# Altium footprint library IC_NXP_74HC4051D,652_eec_0.PcbLib: 1 footprints
Each footprint in its own frame and in the unit in brackets; x right, y up, seen from the top. Pads: shape width x height; smd on the part's side, far side on the other; paste and mask are expansions set on the pad; w line width, h text height; cw(c..) or ccw(c..) is an arc to the next point about the centre after c.
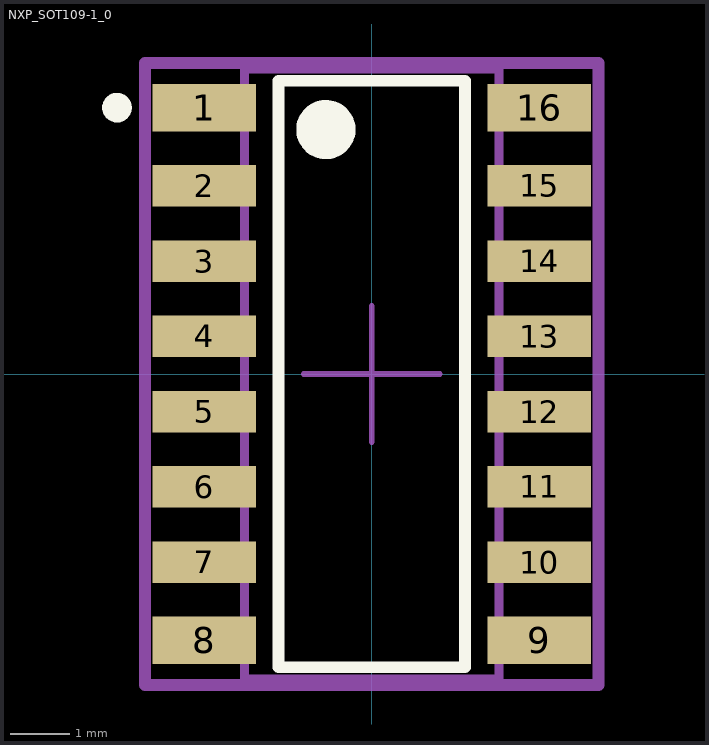
[diagram p0: the footprint, top view; thin cyan lines are the x and y axes]

## NXP_SOT109-1_0 [mm]
pads (16):
  rect 1.75x0.8 smd paste+0 mask+0: 1(-2.825,4.495) 8(-2.825,-4.495) 9(2.825,-4.495) 16(2.825,4.495)
  rect 1.75x0.7 smd paste+0 mask+0: 2(-2.825,3.175) 3(-2.825,1.905) 4(-2.825,0.635) 5(-2.825,-0.635) 6(-2.825,-1.905) 7(-2.825,-3.175) 10(2.825,-3.175) 11(2.825,-1.905) 12(2.825,-0.635) 13(2.825,0.635) 14(2.825,1.905) 15(2.825,3.175)
Top Overlay:
  circle w0.25: c-4.3,4.495 r0.125
  circle w0.5: c-0.775,4.125 r0.25
  lines w0.2: -1.575,-4.95 1.575,-4.95 1.575,4.95 -1.575,4.95 -1.575,-4.95
Mechanical 10:
  lines w0.2: -3.825,-5.25 3.825,-5.25 3.825,5.25 -3.825,5.25 -3.825,-5.25
  text ".Designator" at 0,0 h1
Mechanical 12:
  lines w0.15: -2.15,-5.15 2.15,-5.15 2.15,5.15 -2.15,5.15 -2.15,-5.15
Mechanical 15:
  lines w0.1: -1.148,0 1.148,0 ; -0.5,0 0.5,0 ; 0,-1.148 0,1.148 ; 0,-0.5 0,0.5
  lines w0.2: -3.825,-5.25 3.825,-5.25 3.825,5.25 -3.825,5.25 -3.825,-5.25
3D body "IC_NXP_74HC4051D,652_eec.STEP": height 0.25, standoff 0, extent -3.825,-5.25 3.825,5.25